# EAGLE library part TPS561201 (library texas3v3supplyLib)
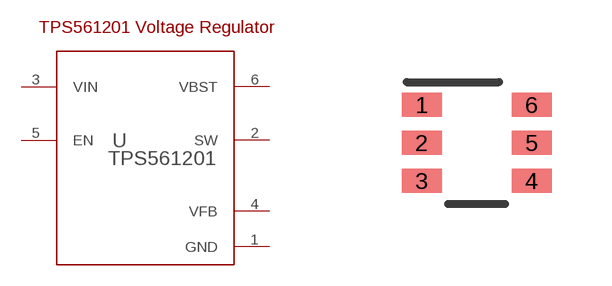
[diagram p0: symbol with the pads of DDC0006A; footprint DDC0006A]

Designator prefix -

## TPS561201  [DDC0006A]
1  GND  pwr
2  SW  pwr
3  VIN  pwr
4  VFB  in
5  EN  in
6  VBST  pwr

## Footprint DDC0006A (pad centres in mm)
smd 1 x 0.6: 1 -1.375,0.95; 2 -1.375,0; 3 -1.375,-0.95; 4 1.375,-0.95; 5 1.375,0; 6 1.375,0.95